# EAGLE library part SSW-129-02-S-Q (library con-samtec)
THROUGH-HOLE .025" SQ POST SOCKET Source: Samtec SSW.pdf
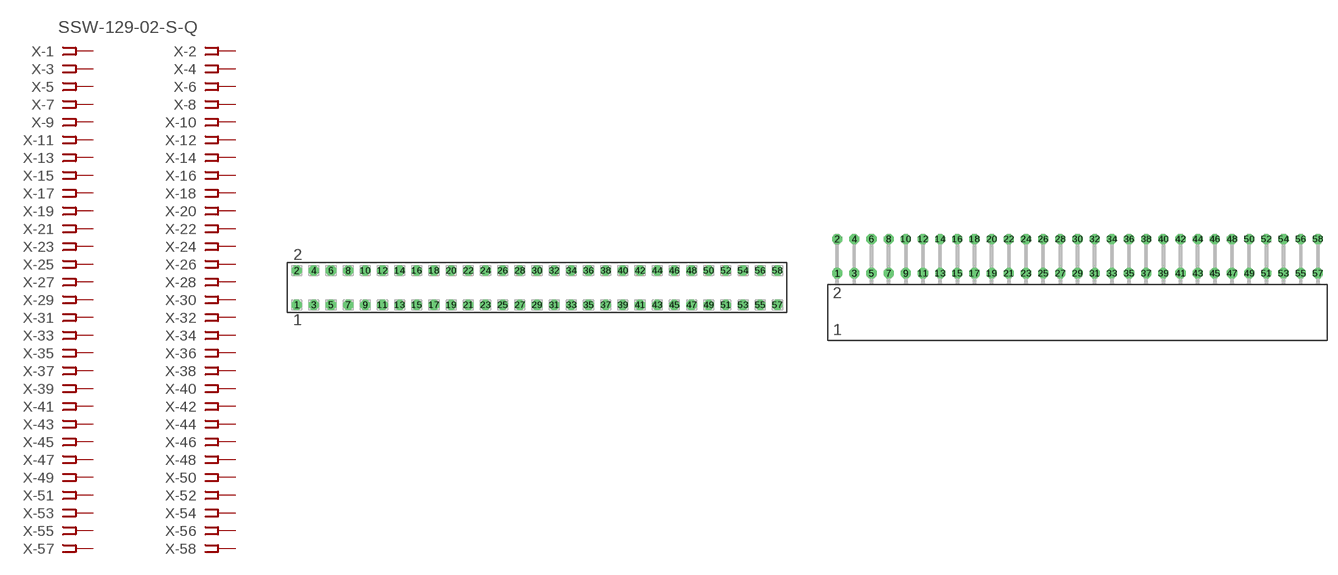
[diagram p119: symbol with the pads of SSW-129-02-S-Q; footprints SSW-129-02-S-Q, SSW-129-02-S-Q-RA]

Designator prefix X; gates -1=FPINV -2=FPIN -3=FPIN -4=FPIN -5=FPIN -6=FPIN -7=FPIN -8=FPIN -9=FPIN -10=FPIN -11=FPIN -12=FPIN -13=FPIN -14=FPIN -15=FPIN -16=FPIN -17=FPIN -18=FPIN -19=FPIN -20=FPIN -21=FPIN -22=FPIN -23=FPIN -24=FPIN -25=FPIN -26=FPIN -27=FPIN -28=FPIN -29=FPIN -30=FPIN -31=FPIN -32=FPIN -33=FPIN -34=FPIN -35=FPIN -36=FPIN -37=FPIN -38=FPIN -39=FPIN -40=FPIN -41=FPIN -42=FPIN -43=FPIN -44=FPIN -45=FPIN -46=FPIN -47=FPIN -48=FPIN -49=FPIN -50=FPIN -51=FPIN -52=FPIN -53=FPIN -54=FPIN -55=FPIN -56=FPIN -57=FPIN -58=FPIN

## SSW-129-02-S-Q (OC_FARNELL: unknown; OC_NEWARK: unknown)  [SSW-129-02-S-Q]
1  -1:1  pas
2  -2:1  pas
3  -3:1  pas
4  -4:1  pas
5  -5:1  pas
6  -6:1  pas
7  -7:1  pas
8  -8:1  pas
9  -9:1  pas
10  -10:1  pas
11  -11:1  pas
12  -12:1  pas
13  -13:1  pas
14  -14:1  pas
15  -15:1  pas
16  -16:1  pas
17  -17:1  pas
18  -18:1  pas
19  -19:1  pas
20  -20:1  pas
21  -21:1  pas
22  -22:1  pas
23  -23:1  pas
24  -24:1  pas
25  -25:1  pas
26  -26:1  pas
27  -27:1  pas
28  -28:1  pas
29  -29:1  pas
30  -30:1  pas
31  -31:1  pas
32  -32:1  pas
33  -33:1  pas
34  -34:1  pas
35  -35:1  pas
36  -36:1  pas
37  -37:1  pas
38  -38:1  pas
39  -39:1  pas
40  -40:1  pas
41  -41:1  pas
42  -42:1  pas
43  -43:1  pas
44  -44:1  pas
45  -45:1  pas
46  -46:1  pas
47  -47:1  pas
48  -48:1  pas
49  -49:1  pas
50  -50:1  pas
51  -51:1  pas
52  -52:1  pas
53  -53:1  pas
54  -54:1  pas
55  -55:1  pas
56  -56:1  pas
57  -57:1  pas
58  -58:1  pas

## SSW-129-02-S-QRA (OC_FARNELL: unknown; OC_NEWARK: unknown)  [SSW-129-02-S-Q-RA]
Pads as for SSW-129-02-S-Q

## Footprint SSW-129-02-S-Q (pad centres in mm)
THROUGH-HOLE .025" SQ POST SOCKET Source: Samtec SSW.pdf
drill 1 pad 1.5 octagon: 1 -35.56,-2.54; 2 -35.56,2.54; 3 -33.02,-2.54; 4 -33.02,2.54; 5 -30.48,-2.54; 6 -30.48,2.54; 7 -27.94,-2.54; 8 -27.94,2.54; 9 -25.4,-2.54; 10 -25.4,2.54; 11 -22.86,-2.54; 12 -22.86,2.54; 13 -20.32,-2.54; 14 -20.32,2.54; 15 -17.78,-2.54; 16 -17.78,2.54; 17 -15.24,-2.54; 18 -15.24,2.54; 19 -12.7,-2.54; 20 -12.7,2.54; 21 -10.16,-2.54; 22 -10.16,2.54; 23 -7.62,-2.54; 24 -7.62,2.54; 25 -5.08,-2.54; 26 -5.08,2.54; 27 -2.54,-2.54; 28 -2.54,2.54; 29 0,-2.54; 30 0,2.54; 31 2.54,-2.54; 32 2.54,2.54; 33 5.08,-2.54; 34 5.08,2.54; 35 7.62,-2.54; 36 7.62,2.54; 37 10.16,-2.54; 38 10.16,2.54; 39 12.7,-2.54; 40 12.7,2.54; 41 15.24,-2.54; 42 15.24,2.54; 43 17.78,-2.54; 44 17.78,2.54; 45 20.32,-2.54; 46 20.32,2.54; 47 22.86,-2.54; 48 22.86,2.54; 49 25.4,-2.54; 50 25.4,2.54; 51 27.94,-2.54; 52 27.94,2.54; 53 30.48,-2.54; 54 30.48,2.54; 55 33.02,-2.54; 56 33.02,2.54; 57 35.56,-2.54; 58 35.56,2.54

## Footprint SSW-129-02-S-Q-RA (pad centres in mm)
THROUGH-HOLE .025" SQ POST SOCKET Source: Samtec SSW.pdf
drill 1 pad 1.5 octagon: 1 -35.56,1.524; 2 -35.56,6.604; 3 -33.02,1.524; 4 -33.02,6.604; 5 -30.48,1.524; 6 -30.48,6.604; 7 -27.94,1.524; 8 -27.94,6.604; 9 -25.4,1.524; 10 -25.4,6.604; 11 -22.86,1.524; 12 -22.86,6.604; 13 -20.32,1.524; 14 -20.32,6.604; 15 -17.78,1.524; 16 -17.78,6.604; 17 -15.24,1.524; 18 -15.24,6.604; 19 -12.7,1.524; 20 -12.7,6.604; 21 -10.16,1.524; 22 -10.16,6.604; 23 -7.62,1.524; 24 -7.62,6.604; 25 -5.08,1.524; 26 -5.08,6.604; 27 -2.54,1.524; 28 -2.54,6.604; 29 0,1.524; 30 0,6.604; 31 2.54,1.524; 32 2.54,6.604; 33 5.08,1.524; 34 5.08,6.604; 35 7.62,1.524; 36 7.62,6.604; 37 10.16,1.524; 38 10.16,6.604; 39 12.7,1.524; 40 12.7,6.604; 41 15.24,1.524; 42 15.24,6.604; 43 17.78,1.524; 44 17.78,6.604; 45 20.32,1.524; 46 20.32,6.604; 47 22.86,1.524; 48 22.86,6.604; 49 25.4,1.524; 50 25.4,6.604; 51 27.94,1.524; 52 27.94,6.604; 53 30.48,1.524; 54 30.48,6.604; 55 33.02,1.524; 56 33.02,6.604; 57 35.56,1.524; 58 35.56,6.604